# Altium footprint library HSSOP8.PcbLib: 1 footprints
Each footprint in its own frame and in the unit in brackets; x right, y up, seen from the top. Pads: shape width x height; smd on the part's side, far side on the other; paste and mask are expansions set on the pad; w line width, h text height; cw(c..) or ccw(c..) is an arc to the next point about the centre after c.
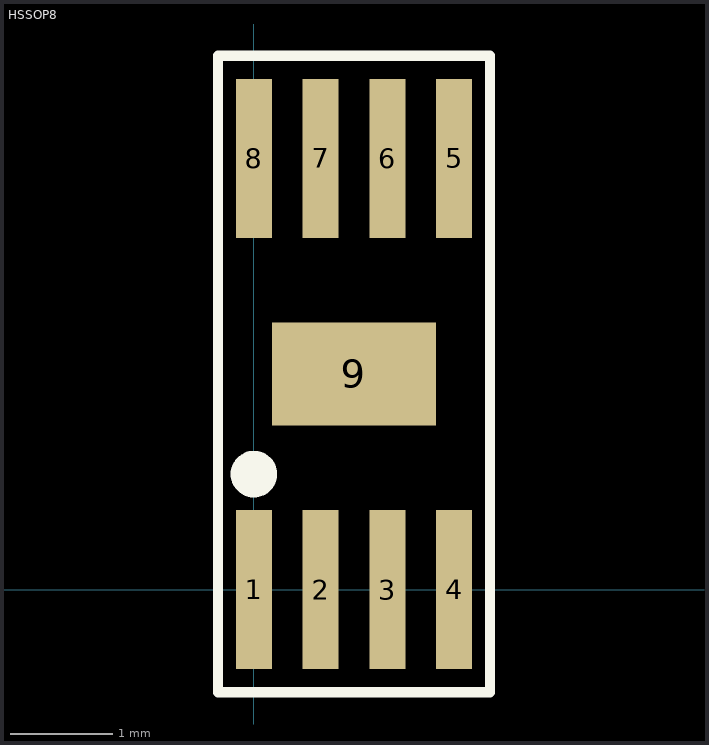
[diagram p0: the footprint, top view; thin cyan lines are the x and y axes]

## HSSOP8 [mm]
pads (9):
  rect 0.35x1.55 smd mask+0.05: 1(0,0) 2(0.65,0) 3(1.3,0) 4(1.95,0) 5(1.95,4.2) 6(1.3,4.2) 7(0.65,4.2) 8(0,4.2)
  rect 1.6x1 smd mask+0.05: 9(0.975,2.1)
Top Overlay:
  circle w0.254: c0,1.125 r0.1
  lines w0.1: -0.35,-1 2.3,-1 2.3,5.2 -0.35,5.2 -0.35,-1
3D body: height 1.11, standoff -0.04, extent -0.475,0.1 2.425,4.1